# Altium footprint library myPcbLib.PcbLib: 116 footprints (part 6 of 8)
Each footprint in its own frame and in the unit in brackets; x right, y up, seen from the top. Pads: shape width x height; smd on the part's side, far side on the other; paste and mask are expansions set on the pad; w line width, h text height; cw(c..) or ccw(c..) is an arc to the next point about the centre after c.
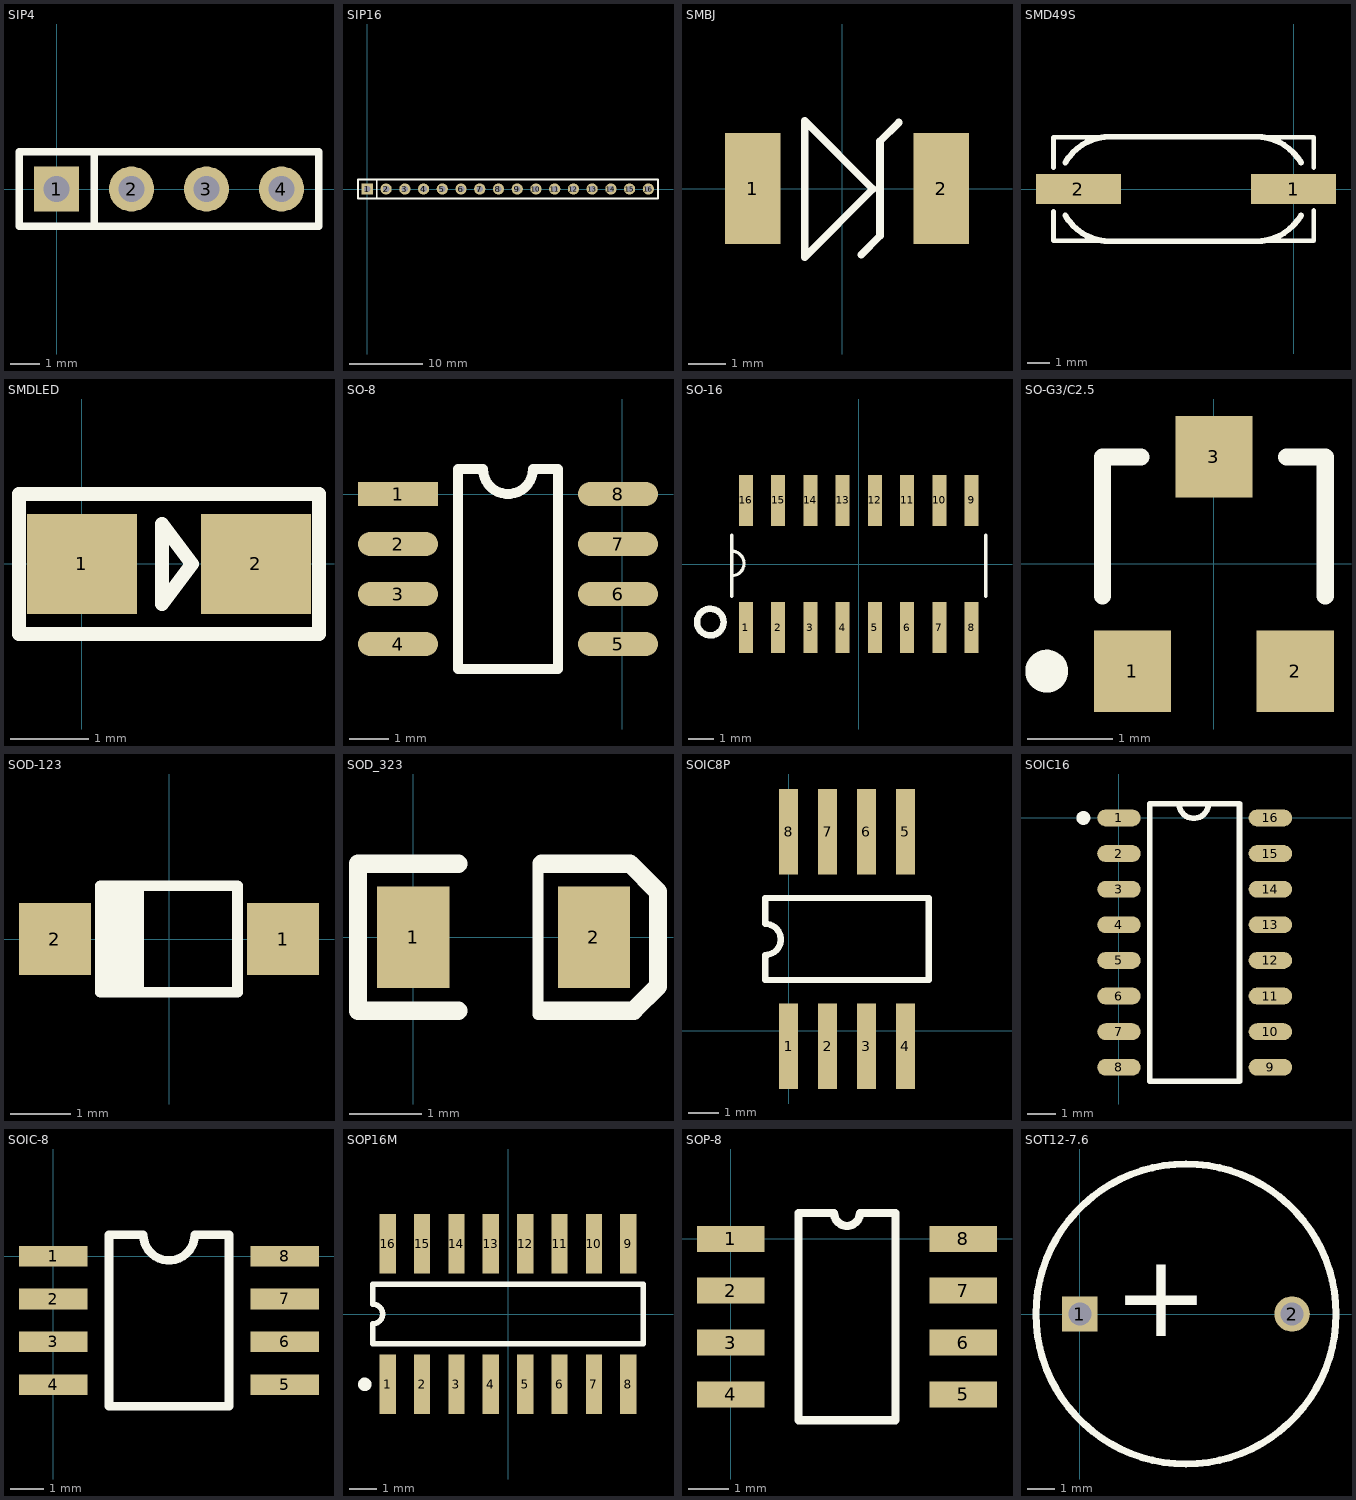
[diagram p5: the footprints below, top view; thin cyan lines are the x and y axes]

## SIP4 [mil]
pads (4):
  rect 60x60 hole 35: 1(0,0)
  round 60 hole 35: 2(100,0) 3(200,0) 4(300,0)
Top Overlay:
  lines w10: 50,-50 50,50 ; -50,-50 350,-50 350,50 -50,50 -50,-50

## SIP16 [mil]
pads (16):
  rect 60x60 hole 34.65: 1(0,0)
  round 60 hole 34.65: 2(100,0) 3(200,0) 4(300,0) 5(400,0) 6(500,0) 7(600,0) 8(700,0) 9(800,0) 10(900,0) 11(1000,0) 12(1100,0) 13(1200,0) 14(1300,0) 15(1400,0) 16(1500,0)
Top Overlay:
  lines w10: 50,-50 50,50 ; -50,-50 1551.57,-50 1551.57,50 -50,50 -50,-50

## SMBJ [mm]
pads (2):
  rect 1.5x3 smd: 1(-2.413,0) 2(2.667,0)
Top Overlay:
  lines w0.203: 0.508,-1.778 1.016,-1.27 1.016,1.27 1.524,1.778 ; -1.016,-1.854 -1.016,1.829 0.826,-0.013 -1.016,-1.854

## SMD49S [mil]
pads (2):
  rect 146x51 smd: 1(0,0) 2(-370,0)
Top Overlay:
  lines w8: -413,-38 -413,-89 35,-89 35,-37 ; -413,37 -413,89 35,89 35,37
  lines w10: -392.57,-45.63 ccw(c-315,0) -315,-90 -55,-90 ; -392.57,45.63 cw(c-315,0) -315,90 -65,90 cw(c-65,0) 12.57,45.63 ; -65,-90 ccw(c-65,0) 12.57,-45.63

## SMDLED [mm]
pads (2):
  rect 1.4x1.27 smd: 1(0.001,-0.002) 2(2.211,-0.002)
Top Overlay:
  lines w0.178: 3.012,0.887 3.011,0.887 ; 3.011,0.887 -0.799,0.887 -0.799,-0.002 -0.799,-0.891 3.011,-0.891 3.011,0.887 ; 1.017,-0.51 1.398,-0.002 1.017,0.506 1.017,-0.51

## SO-8 [mil]
pads (8):
  rect 80x24 smd: 1(-224.41,0)
  oval 80x24 smd: 2(-224.41,-50) 3(-224.41,-100) 4(-224.41,-150) 5(-4.41,-150) 6(-4.41,-100) 7(-4.41,-50) 8(-4.41,0)
Top Overlay:
  lines w10: -164.41,-175 -64.41,-175 -64.41,25 -89.41,25 cw(c-114.41,25) -139.41,25 -164.41,25 -164.41,-175

## SO-16 [mm]
pads (16):
  rect 0.55x2 smd: 1(-4.445,-2.5) 2(-3.175,-2.5) 3(-1.905,-2.5) 4(-0.635,-2.5) 5(0.635,-2.5) 6(1.905,-2.5) 7(3.175,-2.5) 8(4.445,-2.5) 9(4.445,2.5) 10(3.175,2.5) 11(1.905,2.5) 12(0.635,2.5) 13(-0.635,2.5) 14(-1.905,2.5) 15(-3.175,2.5) 16(-4.445,2.5)
Top Overlay:
  circle w0.254: c-5.842,-2.286 r0.524
  lines w0.127: -5,-1.27 -5,1.143 ; -5,-0.463 ccw(c-5,0.022) -5,0.508 ; 5,-1.27 5,1.143
3D body "User Library-so16.STEP": height 1.7, standoff 0, extent -5.127,-2.873 5.073,3.127

## SO-G3/C2.5 [mm]
pads (3):
  rect 0.9x0.95 smd: 1(-0.95,-1.25) 2(0.95,-1.25) 3(0,1.25)
Top Overlay:
  circle w0.25: c-1.95,-1.25 r0.125
  lines w0.2: -1.3,-0.375 -1.3,1.25 -0.85,1.25 ; 0.85,1.25 1.3,1.25 1.3,-0.375

## SOD-123 [mm]
pads (2):
  rect 1.2x1.2 smd: 1(1.905,0) 2(-1.905,0)
Top Overlay:
  rectangle: -1.142,-0.889 -0.507,0.889
  lines w0.178: -0.508,-0.889 -0.508,0.889 ; -1.143,-0.889 1.143,-0.889 1.143,-0.445 1.143,0.445 1.143,0.889 -1.143,0.889 -1.143,-0.889

## SOD_323 [mm]
pads (2):
  rect 1x1.4 smd: 1(0,0) 2(2.5,0)
Top Overlay:
  lines w0.152: 1.727,-1.067 1.727,0.965
  lines w0.254: 0.624,-1.016 -0.762,-1.016 -0.762,1.016 0.624,1.016 ; 1.778,-1.016 3.048,-1.016 3.385,-0.679 3.385,0.628 2.997,1.016 1.778,1.016

## SOIC8P [mil]
height 220.47
pads (8):
  rect 24x110 smd: 1(0,-20) 2(50,-20) 3(100,-20) 4(150,-20) 5(150,255) 6(100,255) 7(50,255) 8(0,255)
Top Overlay:
  lines w8: -30,65 180,65 180,170 -30,170 -30,137 cw(c-30,117) -30,97 -30,65

## SOIC16 [mm] "SOIC16-39MM"
pads (16):
  oval 1.55x0.6 smd: 1(0,0) 2(0,-1.27) 3(0,-2.54) 4(0,-3.81) 5(0,-5.08) 6(0,-6.35) 7(0,-7.62) 8(0,-8.89) 9(5.4,-8.89) 10(5.4,-7.62) 11(5.4,-6.35) 12(5.4,-5.08) 13(5.4,-3.81) 14(5.4,-2.54) 15(5.4,-1.27) 16(5.4,0)
Top Overlay:
  circle w0.25: c-1.268,0 r0.125
  lines w0.2: 2.143,0.508 ccw(c2.667,0.508) 3.191,0.508 ; 1.1,-9.395 4.3,-9.395 4.3,0.505 1.1,0.505 1.1,-9.395

## SOIC-8 [mil]
pads (8):
  rect 80x24 smd: 1(0,0) 2(0,-50.06) 3(0,-100.06) 4(0,-150.06) 5(270,-150) 6(270,-100) 7(270,-50) 8(270,0)
Top Overlay:
  lines w10: 75,24.94 75.06,25 105,25 ccw(c135,25) 165,25 204.94,25 205,24.94 205,-175.06 65,-175.06 65,24.94 95,24.94

## SOP16M [mm]
pads (16):
  rect 0.6x2.2 smd: 1(-4.445,-2.6) 2(-3.175,-2.6) 3(-1.905,-2.6) 4(-0.635,-2.6) 5(0.635,-2.6) 6(1.905,-2.6) 7(3.175,-2.6) 8(4.445,-2.6) 9(4.445,2.6) 10(3.175,2.6) 11(1.905,2.6) 12(0.635,2.6) 13(-0.635,2.6) 14(-1.905,2.6) 15(-3.175,2.6) 16(-4.445,2.6)
Top Overlay:
  circle w0.25: c-5.295,-2.6 r0.125
  lines w0.2: -5,-1.1 -5,-0.367 ccw(c-5,0) -5,0.367 -5,1.1 5,1.1 5,-1.1 -5,-1.1

## SOP-8 [mil]
pads (8):
  rect 65x25 smd: 1(0,0) 2(0,-50) 3(0,-100) 4(0,-150) 5(224.41,-150) 6(224.41,-100) 7(224.41,-50) 8(224.41,0)
Top Overlay:
  lines w7.87: 65.37,-175 159.04,-175 159.04,25 124.7,25 cw(c112.2,25) 99.7,25 65.37,25 65.37,-175

## SOT12-7.6 [mil] "有源蜂鸣器外径12间距7.6mm"
pads (2):
  rect 50x50 hole 32: 1(0,0)
  round 50 hole 32: 2(299.21,0)
Top Overlay:
  circle w10: c149.61,0 r211.58
  text "+" at 47.24,-31.5 h118.11